# Altium schematic symbol library LTC2311HMSE-16PBF.SchLib: 2 symbols
Pins are listed as number, name and electrical type; pins without a type are passive.

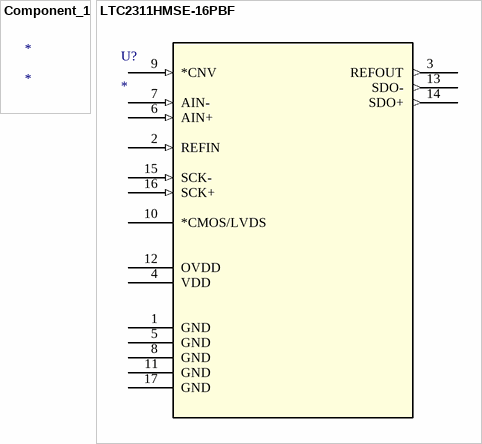
[diagram p0: symbols Component_1 to LTC2311HMSE-16PBF]

## Component_1
designator *

## LTC2311HMSE-16PBF
designator U?
No Description Available; Mfr_Name: Analog Devices Inc; RefDes: RefDes; Type: Type
footprint MSE_16_ADI
pins: 1 GND (power), 2 REFIN (in), 3 REFOUT (out), 4 VDD (power), 5 GND (power), 6 AIN+ (in), 7 AIN- (in), 8 GND (power), 9 *CNV (in), 10 *CMOS/LVDS, 11 GND (power), 12 OVDD (power), 13 SDO- (out), 14 SDO+ (out), 15 SCK- (in), 16 SCK+ (in), 17 GND (power)